# Altium schematic symbol library ACM2012_USB_CM_FILTER.Schlib: 1 symbol
Pins are listed as number, name and electrical type; pins without a type are passive.

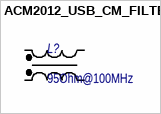
[diagram p0: symbol ACM2012_USB_CM_FILTER]

## ACM2012_USB_CM_FILTER
designator L?, comment 95Ohm@100MHz
USB common mode filter; Назначение: Связанная индуктивность; Наименование: ACM2012-900-2P; Потребление, Вт: 0,001; Value: 95Ohm@100MHz
footprint ACM2012
pins: 1, 2, 3, 4